# EAGLE library part MP1584EN-LF-Z (library MP1584EN-LF-Z)
The MP1584 is a high frequency step-down switching regulator with an integrated internal high-side high voltage power MOSFET. It provides 3A output with current mode control for fast loop response and easy compensation. The wide 4.5V to 28V input range accommodates a variety of step-down applications, including those in an automotive input environment. A 100µA operational quiescent current allows use in battery-powered applications.
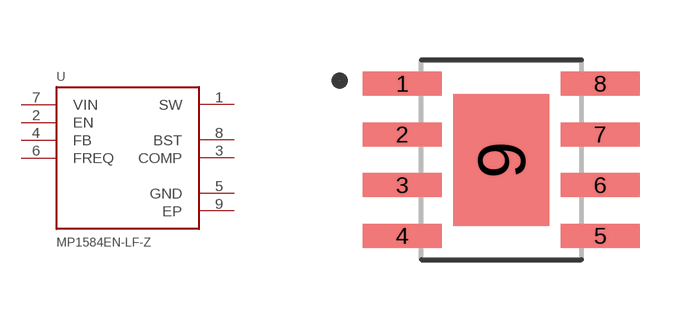
[diagram p0: symbol with the pads of SOIC127P600X170-9N; footprint SOIC127P600X170-9N]

Designator prefix U

## MP1584EN-LF-Z (Availability: Unavailable; Description: Buck Switching Regulator IC Positive Adjustable 0.8V 1 Output 3A 8-SOIC _0.154, 3.90mm Width_ Exposed Pad; MF: Monolithic Power; MP: MP1584EN-LF-Z; Package: SOIC-8 MPS; Price: None)  [SOIC127P600X170-9N]
1  SW  out
2  EN  in
3  COMP  pas
4  FB  in
5  GND  pwr
6  FREQ  pas
7  VIN  in
8  BST  pas
9  EP  pwr

## Footprint SOIC127P600X170-9N (pad centres in mm)
smd 1.97 x 0.6: 1 -2.475,1.905; 2 -2.475,0.635; 3 -2.475,-0.635; 4 -2.475,-1.905; 5 2.475,-1.905; 6 2.475,-0.635; 7 2.475,0.635; 8 2.475,1.905
smd 2.41 x 3.3: 9 0,0